# Altium footprint library M50-3600542.PcbLib: 1 footprints
Each footprint in its own frame and in the unit in brackets; x right, y up, seen from the top. Pads: shape width x height; smd on the part's side, far side on the other; paste and mask are expansions set on the pad; w line width, h text height; cw(c..) or ccw(c..) is an arc to the next point about the centre after c.
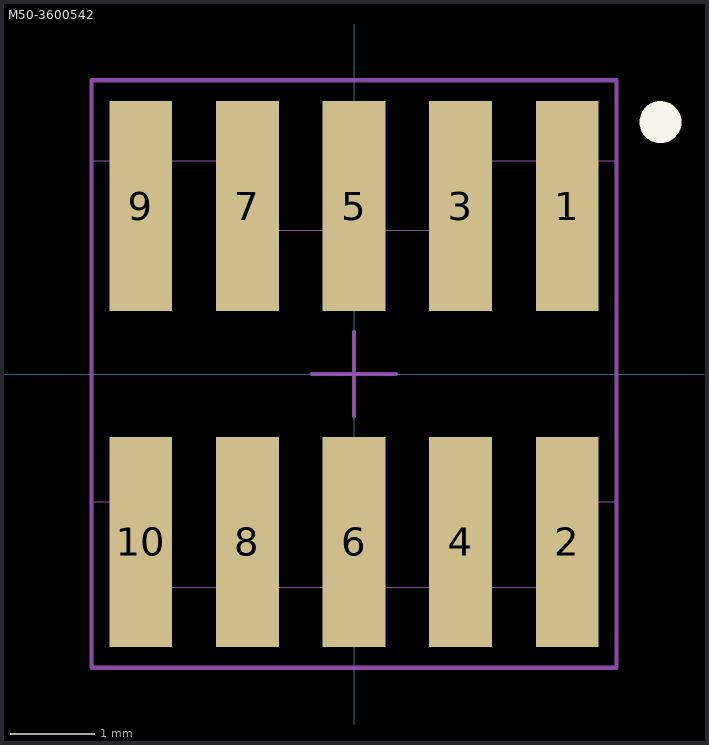
[diagram p0: the footprint, top view; thin cyan lines are the x and y axes]

## M50-3600542 [mm] "1.27mm pitch, 10 pin, terminal strip; vertical, SMT"
height 4
pads (10):
  rect 0.75x2.5 smd mask+0: 1(2.54,2) 2(2.54,-2) 3(1.27,2) 4(1.27,-2) 5(0,2) 6(0,-2) 7(-1.27,2) 8(-1.27,-2) 9(-2.54,2) 10(-2.54,-2)
Top Overlay:
  circle w0.25: c3.65,3 r0.125
Bottom Dimension:
  lines w0.001: -3.137,-1.524 -2.54,-1.524 -2.54,-2.54 2.54,-2.54 2.54,-1.524 3.137,-1.524 3.137,2.54 1.079,2.54 1.079,1.714 -1.079,1.714 -1.079,2.54 -3.137,2.54 -3.137,-1.524
Top Courtyard:
  lines w0.05: -0.5,0 0.5,0 ; 0,-0.5 0,0.5 ; -3.125,-3.5 -3.125,3.5 3.125,3.5 3.125,-3.5 -3.125,-3.5